# EAGLE library part PRINTER-MP205 (library p.peter-periphery)
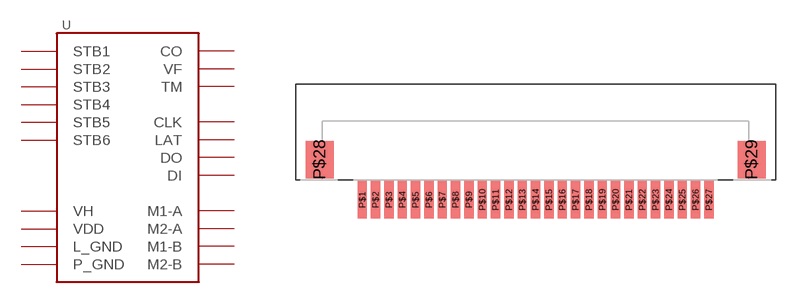
[diagram p1: symbol with the pads of CON-MOLEX-FPC-27; footprint CON-MOLEX-FPC-27]

Designator prefix -

## PRINTER-MP205FPC  [CON-MOLEX-FPC-27]
P$1  CO
P$2  VF
P$3  L_GND
P$4  VH
P$5  VH
P$6  DI
P$7  STB6
P$8  STB5
P$9  STB4
P$10  P_GND
P$11  P_GND
P$12  P_GND
P$13  P_GND
P$14  TM
P$15  STB3
P$16  STB2
P$17  STB1
P$18  VDD
P$19  CLK
P$20  LAT
P$21  DO
P$22  VH
P$23  VH
P$24  M2-B
P$25  M1-B
P$26  M2-A
P$27  M1-A

## Footprint CON-MOLEX-FPC-27 (pad centres in mm)
smd 0.7 x 2.8: P$1 -13,-3; P$2 -12,-3; P$3 -11,-3; P$4 -10,-3; P$5 -9,-3; P$6 -8,-3; P$7 -7,-3; P$8 -6,-3; P$9 -5,-3; P$10 -4,-3; P$11 -3,-3; P$12 -2,-3; P$13 -1,-3; P$14 0,-3; P$15 1,-3; P$16 2,-3; P$17 3,-3; P$18 4,-3; P$19 5,-3; P$20 6,-3; P$21 7,-3; P$22 8,-3; P$23 9,-3; P$24 10,-3; P$25 11,-3; P$26 12,-3; P$27 13,-3
smd 2.1 x 2.8: P$28 -16.2,0; P$29 16.2,0